# Altium footprint library pcb_library.PcbLib: 18 footprints (part 1 of 2)
Each footprint in its own frame and in the unit in brackets; x right, y up, seen from the top. Pads: shape width x height; smd on the part's side, far side on the other; paste and mask are expansions set on the pad; w line width, h text height; cw(c..) or ccw(c..) is an arc to the next point about the centre after c.
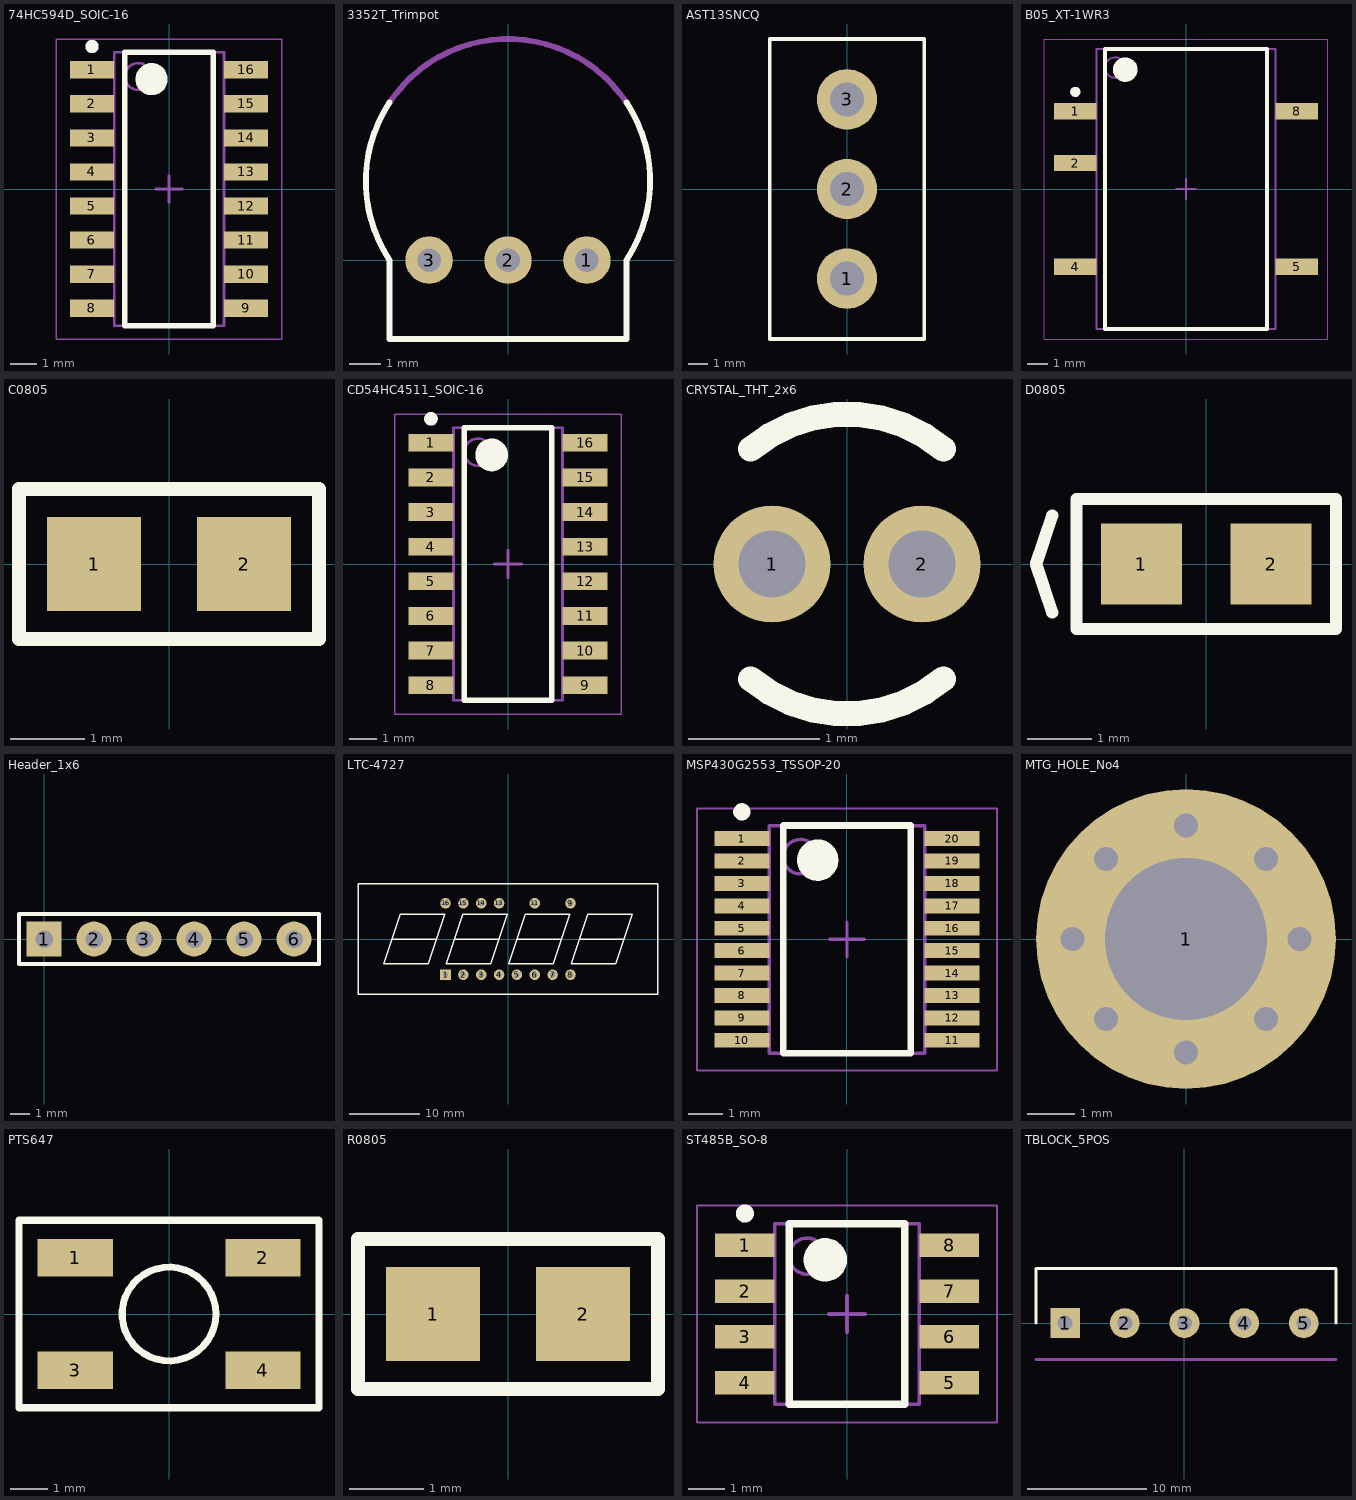
[diagram p0: the footprints below, top view; thin cyan lines are the x and y axes]

## 74HC594D_SOIC-16 [mm] "SOIC, 16-Leads, Body 9.95x3.90mm, Pitch 1.27mm, IPC Low Density"
height 1.75
pads (16):
  rect 1.65x0.65 smd: 1(-2.875,4.445) 2(-2.875,3.175) 3(-2.875,1.905) 4(-2.875,0.635) 5(-2.875,-0.635) 6(-2.875,-1.905) 7(-2.875,-3.175) 8(-2.875,-4.445) 9(2.875,-4.445) 10(2.875,-3.175) 11(2.875,-1.905) 12(2.875,-0.635) 13(2.875,0.635) 14(2.875,1.905) 15(2.875,3.175) 16(2.875,4.445)
Top Overlay:
  circle w0.6: c-0.65,4.1 r0.3
  circle w0.25: c-2.875,5.32 r0.125
  lines w0.2: -1.65,-5.1 1.65,-5.1 1.65,5.1 -1.65,5.1 -1.65,-5.1
Mechanical 13:
  circle w0.1: c-1.15,4.2 r0.5
  lines w0.1: -2.05,-5.1 2.05,-5.1 2.05,5.1 -2.05,5.1 -2.05,-5.1
Mechanical 15:
  lines w0.05: -4.2,-5.6 4.2,-5.6 4.2,5.6 -4.2,5.6 -4.2,-5.6
  lines w0.1: -0.5,0 0.5,0 ; 0,-0.5 0,0.5
3D body "SOIC127P600X175-16M.step": height 1.75, standoff 0, extent -3,-5.1 3,5.1

## 3352T_Trimpot [mil]
pads (3):
  round 60 hole 30: 1(100,0) 2(0,0) 3(-100,0)
Top Overlay:
  lines w7.5: -150,200 ccw(c0,100) -150,0 -150,-100 150,-100 150,0 ccw(c0,100) 150,200
Mechanical 15:
  lines w7.5: -150,200 cw(c0,100) 150,200

## AST13SNCQ [mil]
pads (3):
  round 125 hole 70: 1(0,-185.04) 2(0,0) 3(0,185.04)
Top Overlay:
  lines w7.5: -160,-310 -160,310 160,310 160,-310 -160,-310

## B05_XT-1WR3 [mm] "CFP, 8-Leads, Body 13.70x8.75mm (max), Pitch 2.54mm, IPC Low Density"
height 7.5
pads (5):
  rect 2.1x0.8 smd: 1(-5.425,3.81) 2(-5.425,1.27) 4(-5.425,-3.81) 5(5.425,-3.81) 8(5.425,3.81)
Top Overlay:
  circle w0.25: c-5.425,4.76 r0.125
  circle w0.6: c-2.975,5.85 r0.3
  lines w0.2: -3.975,-6.85 3.975,-6.85 3.975,6.85 -3.975,6.85 -3.975,-6.85
Mechanical 13:
  circle w0.1: c-3.475,5.95 r0.5
  lines w0.1: -4.375,-6.85 4.375,-6.85 4.375,6.85 -4.375,6.85 -4.375,-6.85
Mechanical 15:
  lines w0.05: -6.95,-7.35 6.95,-7.35 6.95,7.35 -6.95,7.35 -6.95,-7.35
  lines w0.1: -0.5,0 0.5,0 ; 0,-0.5 0,0.5
3D body "CFP254P1140X750-8M.step": height 7.5, standoff 0, extent -5.85,-6.85 5.85,6.85

## C0805 [mil]
pads (2):
  rect 50x50 smd: 1(-40,0) 2(40,0)
Top Overlay:
  lines w7.5: -80,-40 -80,40 80,40 80,-40 -80,-40
3D body: height 50, standoff 0, extent -40,-20 40,20

## CD54HC4511_SOIC-16 [mm] "SOIC, 16-Leads, Body 9.90x3.90mm, Pitch 1.27mm, IPC Low Density"
height 1.75
pads (16):
  rect 1.65x0.65 smd: 1(-2.825,4.445) 2(-2.825,3.175) 3(-2.825,1.905) 4(-2.825,0.635) 5(-2.825,-0.635) 6(-2.825,-1.905) 7(-2.825,-3.175) 8(-2.825,-4.445) 9(2.825,-4.445) 10(2.825,-3.175) 11(2.825,-1.905) 12(2.825,-0.635) 13(2.825,0.635) 14(2.825,1.905) 15(2.825,3.175) 16(2.825,4.445)
Top Overlay:
  circle w0.6: c-0.6,4 r0.3
  circle w0.25: c-2.825,5.32 r0.125
  lines w0.2: -1.6,-5 1.6,-5 1.6,5 -1.6,5 -1.6,-5
Mechanical 13:
  circle w0.1: c-1.1,4.1 r0.5
  lines w0.1: -2,-5 2,-5 2,5 -2,5 -2,-5
Mechanical 15:
  lines w0.05: -4.15,-5.5 4.15,-5.5 4.15,5.5 -4.15,5.5 -4.15,-5.5
  lines w0.1: -0.5,0 0.5,0 ; 0,-0.5 0,0.5
3D body "SOIC127P600X175-16M.step": height 1.75, standoff 0, extent -3,-5 3,5

## CRYSTAL_THT_2x6 [mil]
pads (2):
  round 35 hole 20: 1(-22.5,0) 2(22.5,0)
Top Overlay:
  lines w7.5: -28.93,-34.47 ccw(c0,0) 28.93,-34.47 ; -28.93,34.47 cw(c0,0) 28.93,34.47

## D0805 [mil]
pads (2):
  rect 50x50 smd: 1(-40,0) 2(40,0)
Top Overlay:
  lines w7.5: -95,-30 -105,0 -95,30 ; -80,-40 -80,40 80,40 80,-40 -80,-40
3D body: height 50, standoff 0, extent -40,-20 40,20

## Header_1x6 [mil]
pads (6):
  rect 70x70 hole 35: 1(0,0)
  round 70 hole 35: 2(100,0) 3(200,0) 4(300,0) 5(400,0) 6(500,0)
Top Overlay:
  lines w7.5: -50,-50 -50,50 550,50 550,-50 -50,-50

## LTC-4727 [mm] "Four Digit, Seven Segment Display"
pads (14):
  rect 1.5x1.5 hole 0.75: 1(-8.89,-5.08)
  round 1.5 hole 0.75: 2(-6.35,-5.08) 3(-3.81,-5.08) 4(-1.27,-5.08) 5(1.27,-5.08) 6(3.81,-5.08) 7(6.35,-5.08) 8(8.89,-5.08) 9(8.89,5.08) 11(3.81,5.08) 13(-1.27,5.08) 14(-3.81,5.08) 15(-6.35,5.08) 16(-8.89,5.08)
Top Overlay:
  lines w0.191: -16.51,0 -10.16,0 ; -7.62,0 -1.27,0 ; 1.27,0 7.62,0 ; 10.16,0 16.51,0 ; -21.336,-7.874 -21.336,7.874 21.336,7.874 21.336,-7.874 -21.336,-7.874 ; -17.695,-3.556 -15.325,3.556 -8.975,3.556 -11.345,-3.556 -17.695,-3.556 ; -8.805,-3.556 -6.435,3.556 -0.085,3.556 -2.455,-3.556 -8.805,-3.556 ; 0.085,-3.556 2.455,3.556 8.805,3.556 6.435,-3.556 0.085,-3.556 ; 8.975,-3.556 11.345,3.556 17.695,3.556 15.325,-3.556 8.975,-3.556

## MSP430G2553_TSSOP-20 [mil] "TSOP, 20-Leads, Body 6.50x4.40mm, Pitch 0.65mm, IPC Low Density"
height 47.24
pads (20):
  rect 63x17 smd: 1(-120,115.16) 2(-120,89.57) 3(-120,63.98) 4(-120,38.39) 5(-120,12.8) 6(-120,-12.8) 7(-120,-38.39) 8(-120,-63.98) 9(-120,-89.57) 10(-120,-115.16) 11(120,-115.16) 12(120,-89.57) 13(120,-63.98) 14(120,-38.39) 15(120,-12.8) 16(120,12.8) 17(120,38.39) 18(120,63.98) 19(120,89.57) 20(120,115.16)
Top Overlay:
  circle w9.84: c-120.08,145.67 r4.92
  circle w23.62: c-33.46,90.55 r11.81
  lines w7.87: -72.83,-129.92 -72.83,129.92 72.83,129.92 72.83,-129.92 -72.83,-129.92
Mechanical 13:
  circle w3.94: c-53.15,94.49 r19.68
  lines w3.94: -88.58,-129.92 -88.58,129.92 88.58,129.92 88.58,-129.92 -88.58,-129.92
Mechanical 15:
  lines w1.97: -171.26,-149.61 -171.26,149.61 171.26,149.61 171.26,-149.61 -171.26,-149.61
  lines w3.94: -19.68,0 19.69,0 ; 0,-19.68 0,19.69
3D body "TSOP65P640X120-20M.step": height 47.24, standoff 0, extent -125.98,-129.92 125.98,129.92

## MTG_HOLE_No4 [mil]
pads (1):
  round 250 hole 135: 1(0,0)
via -66.82,66.82 diameter 44 hole 20
via -94.5,0 diameter 44 hole 20
via -66.82,-66.82 diameter 44 hole 20
via 0,-94.5 diameter 44 hole 20
via 66.82,-66.82 diameter 44 hole 20
via 94.5,0 diameter 44 hole 20
via 66.82,66.82 diameter 44 hole 20
via 0,94.5 diameter 44 hole 20

## PTS647 [mil]
pads (4):
  rect 80x40 smd: 1(-100,60) 2(100,60) 3(-100,-60) 4(100,-60)
Top Overlay:
  circle w7.5: c0,0 r50
  lines w7.5: -160,-100 160,-100 160,100 -160,100 -160,-100

## R0805 [mil]
pads (2):
  rect 50x50 smd: 1(-40,0) 2(40,0)
Top Overlay:
  lines w7.5: -80,-40 80,-40 80,40 -80,40 -80,-40
3D body: height 20, standoff 0, extent -40,-20 40,20

## ST485B_SO-8 [mm] "SOIC, 8-Leads, Body 4.90x3.90mm, Pitch 1.27mm, IPC Low Density"
height 1.75
pads (8):
  rect 1.65x0.65 smd: 1(-2.825,1.905) 2(-2.825,0.635) 3(-2.825,-0.635) 4(-2.825,-1.905) 5(2.825,-1.905) 6(2.825,-0.635) 7(2.825,0.635) 8(2.825,1.905)
Top Overlay:
  circle w0.25: c-2.825,2.78 r0.125
  circle w0.6: c-0.6,1.5 r0.3
  lines w0.2: -1.6,-2.5 -1.6,2.5 1.6,2.5 1.6,-2.5 -1.6,-2.5
Mechanical 13:
  circle w0.1: c-1.1,1.6 r0.5
  lines w0.1: -2,-2.5 -2,2.5 2,2.5 2,-2.5 -2,-2.5
Mechanical 15:
  lines w0.05: -4.15,-3 -4.15,3 4.15,3 4.15,-3 -4.15,-3
  lines w0.1: -0.5,0 0.5,0 ; 0,-0.5 0,0.5
3D body "SOIC127P600X175-8M.step": height 1.75, standoff 0, extent -3,-2.5 3,2.5

## TBLOCK_5POS [mm]
pads (5):
  rect 2.5x2.5 hole 1.25: 1(-10,0)
  round 2.5 hole 1.25: 2(-5,0) 3(0,0) 4(5,0) 5(10,0)
Top Overlay:
  lines w0.25: -12.446,0 -12.446,4.572 12.7,4.572 12.7,0
Mechanical 15:
  lines w0.25: -12.446,-3.048 12.7,-3.048